# Altium footprint library QFN-20_UFD_LIT-M.PcbLib: 1 footprints
Each footprint in its own frame and in the unit in brackets; x right, y up, seen from the top. Pads: shape width x height; smd on the part's side, far side on the other; paste and mask are expansions set on the pad; w line width, h text height; cw(c..) or ccw(c..) is an arc to the next point about the centre after c.
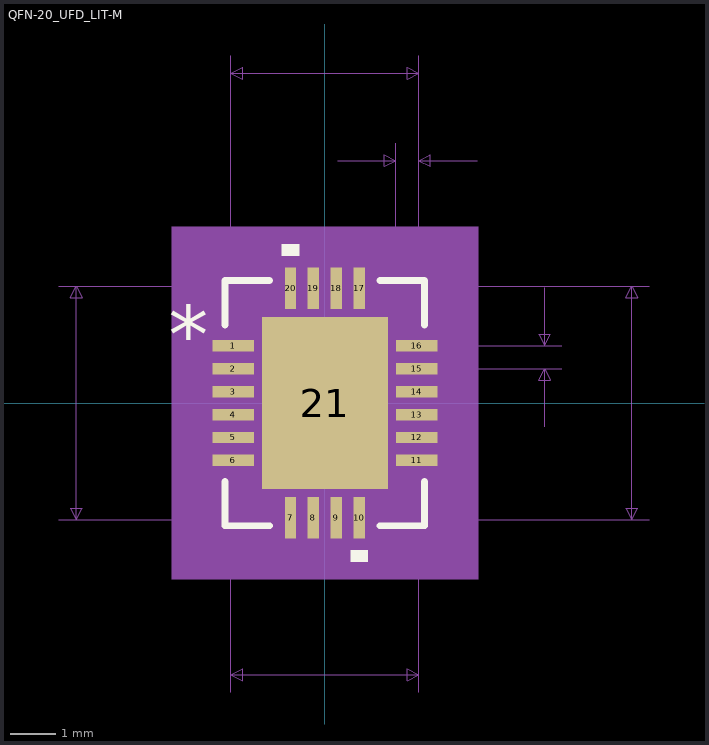
[diagram p0: the footprint, top view; thin cyan lines are the x and y axes]

## QFN-20_UFD_LIT-M [mm]
pads (21):
  rect 0.906x0.249 smd paste+0 mask+0: 1(-2.003,1.25) 2(-2.003,0.75) 3(-2.003,0.25) 4(-2.003,-0.25) 5(-2.003,-0.75) 6(-2.003,-1.25) 11(2.003,-1.25) 12(2.003,-0.75) 13(2.003,-0.25) 14(2.003,0.25) 15(2.003,0.75) 16(2.003,1.25)
  rect 0.249x0.906 smd paste+0 mask+0: 7(-0.75,-2.503) 8(-0.25,-2.503) 9(0.25,-2.503) 10(0.75,-2.503) 17(0.75,2.503) 18(0.25,2.503) 19(-0.25,2.503) 20(-0.75,2.503)
  rect 2.75x3.75 smd paste-1.862 mask+0: 21(0,0)
Top Overlay:
  region: 0.941,-3.21 0.56,-3.21 0.56,-3.464 0.941,-3.464
  region: -0.56,3.21 -0.941,3.21 -0.941,3.464 -0.56,3.464
  lines w0.152: -2.177,-1.707 -2.177,-2.677 -1.207,-2.677 ; -2.177,1.707 -2.177,2.677 -1.207,2.677 ; 1.207,-2.677 2.177,-2.677 2.177,-1.707 ; 1.207,2.677 2.177,2.677 2.177,1.707
  text "*" at -3.409,0.865 h1.27
Top Paste:
  region: -0.1,1.775 -1.275,1.775 -1.275,0.1 -0.1,0.1
  region: -0.1,-0.1 -1.275,-0.1 -1.275,-1.775 -0.1,-1.775
  region: 1.275,1.775 0.1,1.775 0.1,0.1 1.275,0.1
  region: 1.275,-0.1 0.1,-0.1 0.1,-1.775 1.275,-1.775
Mechanical 5:
  region: 3.345,-3.845 -3.345,-3.845 -3.345,3.845 3.345,3.845
Mechanical 7:
  lines w0.025: -5.809,-2.55 2.05,-2.55 ; -5.809,2.55 2.05,2.55 2.05,-6.309 ; -2.05,-6.309 -2.05,2.55 ; -2.05,1.25 -2.05,7.579 ; 0.28,5.293 1.55,5.293 ; 0.75,-2.55 7.079,-2.55 ; 0.75,2.55 7.079,2.55 ; 1.55,1.25 1.55,5.674 ; 2.003,0.75 5.174,0.75 ; 2.003,1.25 5.174,1.25 ; 2.05,5.674 2.05,1.25 2.05,7.579 ; 3.32,5.293 2.05,5.293 ; 4.793,-0.52 4.793,0.75 ; 4.793,2.52 4.793,1.25 ; -5.428,-2.55 -5.428,2.55 ; -5.428,-2.55 -5.555,-2.296 -5.301,-2.296 -5.428,-2.55 ; -5.428,2.55 -5.555,2.296 -5.301,2.296 -5.428,2.55 ; -2.05,-5.928 2.05,-5.928 ; -2.05,-5.928 -1.796,-5.801 -1.796,-6.055 -2.05,-5.928 ; -2.05,7.198 2.05,7.198 ; -2.05,7.198 -1.796,7.325 -1.796,7.071 -2.05,7.198 ; 1.55,5.293 1.296,5.42 1.296,5.166 1.55,5.293 ; 2.05,-5.928 1.796,-5.801 1.796,-6.055 2.05,-5.928 ; 2.05,5.293 2.304,5.42 2.304,5.166 2.05,5.293 ; 2.05,7.198 1.796,7.325 1.796,7.071 2.05,7.198 ; 4.793,0.75 4.666,0.496 4.92,0.496 4.793,0.75 ; 4.793,1.25 4.666,1.504 4.92,1.504 4.793,1.25 ; 6.698,-2.55 6.698,2.55 ; 6.698,-2.55 6.571,-2.296 6.825,-2.296 6.698,-2.55 ; 6.698,2.55 6.571,2.296 6.825,2.296 6.698,2.55
  text "Default Padstyle: RX9p81Y35p69D0T" at -10.477,-10.83 h1.27
  text "Heat Tab Padstyle: RX108p27Y147p64D0T" at -11.747,-12.354 h1.27
  text "Alt 1 Padstyle: OX60Y90D30P" at -8.572,-15.402 h1.27
  text "Alt 2 Padstyle: OX90Y60D30P" at -8.572,-16.926 h1.27
  text "0.02in/0.5mm" at 5.301,0.683 h0.64
  text "0.02in/0.5mm" at -0.105,5.801 h0.64
  text "0.161in/4.1mm" at -2.064,7.706 h0.64
  text "0.201in/5.1mm" at 7.206,-0.318 h0.64
  text "0.201in/5.1mm" at -10.064,-0.318 h0.64
  text "0.161in/4.1mm" at -2.064,-7.071 h0.64
Mechanical 13:
  lines w0.025: -2.05,1.28 -0.78,2.55 ; -2.05,-2.55 2.05,-2.55 2.05,2.55 -2.05,2.55 -2.05,-2.55 ; -2.05,-1.4 -2.05,-1.1 -2.05,-1.4 ; -2.05,-0.9 -2.05,-0.6 -2.05,-0.9 ; -2.05,-0.4 -2.05,-0.1 -2.05,-0.4 ; -2.05,0.1 -2.05,0.4 -2.05,0.1 ; -2.05,0.6 -2.05,0.9 -2.05,0.6 ; -2.05,1.1 -2.05,1.4 -2.05,1.1 ; -0.9,-2.55 -0.6,-2.55 -0.9,-2.55 ; -0.9,2.55 -0.6,2.55 -0.9,2.55 ; -0.4,-2.55 -0.1,-2.55 -0.4,-2.55 ; -0.4,2.55 -0.1,2.55 -0.4,2.55 ; 0.1,-2.55 0.4,-2.55 0.1,-2.55 ; 0.1,2.55 0.4,2.55 0.1,2.55 ; 0.6,-2.55 0.9,-2.55 0.6,-2.55 ; 0.6,2.55 0.9,2.55 0.6,2.55 ; 2.05,-1.4 2.05,-1.1 2.05,-1.4 ; 2.05,-0.9 2.05,-0.6 2.05,-0.9 ; 2.05,-0.4 2.05,-0.1 2.05,-0.4 ; 2.05,0.1 2.05,0.4 2.05,0.1 ; 2.05,0.6 2.05,0.9 2.05,0.6 ; 2.05,1.1 2.05,1.4 2.05,1.1
  text "*" at -1.867,0.865 h1.27
Mechanical 15:
  region: -1.383,-3.058 -2.558,-3.058 -2.558,-1.883 -2.964,-1.883 -2.964,1.883 -2.558,1.883 -2.558,3.058 -1.383,3.058 -1.383,3.464 1.383,3.464 1.383,3.058 2.558,3.058 2.558,1.883 2.964,1.883 2.964,-1.883 2.558,-1.883 2.558,-3.058 1.383,-3.058 1.383,-3.464 -1.383,-3.464
  lines w0.152: -2.964,-1.883 -2.558,-1.883 -2.558,-3.058 -1.383,-3.058 -1.383,-3.464 1.383,-3.464 1.383,-3.058 2.558,-3.058 2.558,-1.883 2.964,-1.883 2.964,1.883 2.558,1.883 2.558,3.058 1.383,3.058 1.383,3.464 -1.383,3.464 -1.383,3.058 -2.558,3.058 -2.558,1.883 -2.964,1.883 -2.964,-1.883
3D body: height 0.25, standoff 0, extent 0,0 0.254,0.254